# EAGLE library part 52610-2571 (library molex)
SOCKET FFC/FPC
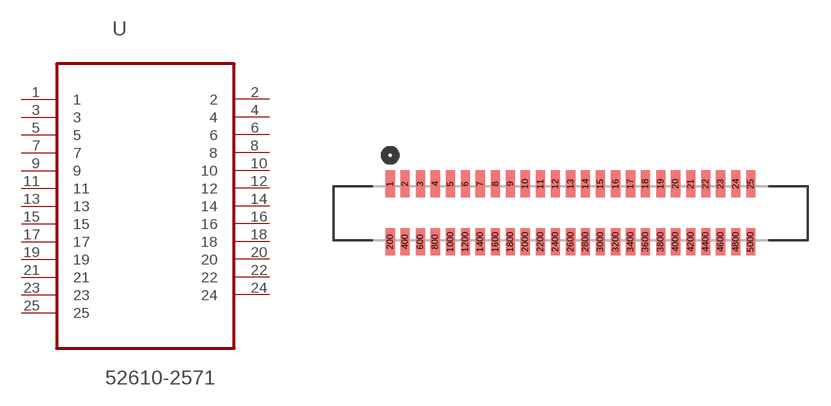
[diagram p23: symbol with the pads of MOLEX_52610-2571; footprint MOLEX_52610-2571]

Designator prefix U

## 52610-2571 (MPN: 52610-2571; OC_FARNELL: 1757110; OC_NEWARK: 34R5852; PACKAGE: SOCKET FFC/FPC, 25 way; SUPPLIER: Molex)  [MOLEX_52610-2571]
1  1  pas
2  2  pas
3  3  pas
4  4  pas
5  5  pas
6  6  pas
7  7  pas
8  8  pas
9  9  pas
10  10  pas
11  11  pas
12  12  pas
13  13  pas
14  14  pas
15  15  pas
16  16  pas
17  17  pas
18  18  pas
19  19  pas
20  20  pas
21  21  pas
22  22  pas
23  23  pas
24  24  pas
25  25  pas

## Footprint MOLEX_52610-2571 (pad centres in mm)
smd 0.61 x 1.803: 1 -24.003,3.861; 2 -23.012,3.861; 3 -21.996,3.861; 4 -21.006,3.861; 5 -19.99,3.861; 6 -18.999,3.861; 7 -18.009,3.861; 8 -16.993,3.861; 9 -16.002,3.861; 10 -15.011,3.861; 11 -13.995,3.861; 12 -13.005,3.861; 13 -11.989,3.861; 14 -10.998,3.861; 15 -10.008,3.861; 16 -8.992,3.861; 17 -8.001,3.861; 18 -7.01,3.861; 19 -5.994,3.861; 20 -5.004,3.861; 21 -3.988,3.861; 22 -2.997,3.861; 23 -2.007,3.861; 24 -0.991,3.861; 25 0,3.861; 200 -24.003,0; 400 -23.012,0; 600 -21.996,0; 800 -21.006,0; 1000 -19.99,0; 1200 -18.999,0; 1400 -18.009,0; 1600 -16.993,0; 1800 -16.002,0; 2000 -15.011,0; 2200 -13.995,0; 2400 -13.005,0; 2600 -11.989,0; 2800 -10.998,0; 3000 -10.008,0; 3200 -8.992,0; 3400 -8.001,0; 3600 -7.01,0; 3800 -5.994,0; 4000 -5.004,0; 4200 -3.988,0; 4400 -2.997,0; 4600 -2.007,0; 4800 -0.991,0; 5000 0,0